# EAGLE library part SD_MMC (library CameraTags)
Sparkfun SD MMC Breakout Module SDIO https://www.sparkfun.com/products/12941
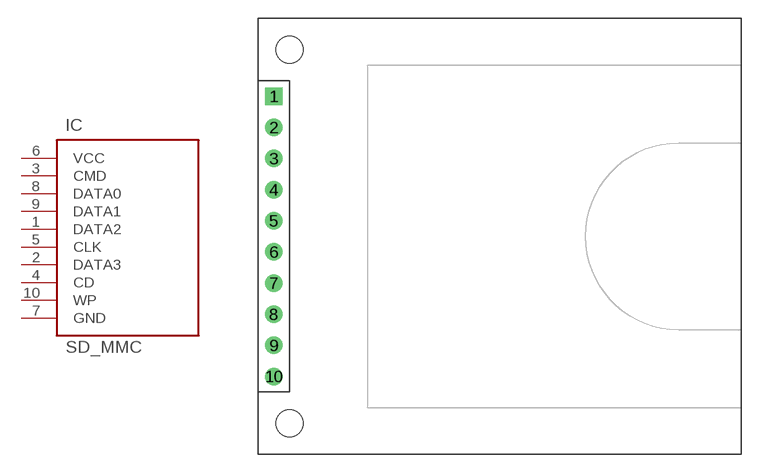
[diagram p16: symbol with the pads of SD_MMC; footprint SD_MMC]

Designator prefix IC

## SD_MMC  [SD_MMC]
1  DATA2
2  DATA3
3  CMD
4  CD
5  CLK
6  VCC
7  GND
8  DATA0
9  DATA1
10  WP

## Footprint SD_MMC (pad centres in mm)
Sparkfun SD / MMC Breakout Module https://www.sparkfun.com/products/12941
drill 0.8 pad 1.422 square: 1 -17.78,11.43
drill 0.8 pad 1.422: 2 -17.78,8.89; 3 -17.78,6.35; 4 -17.78,3.81; 5 -17.78,1.27; 6 -17.78,-1.27; 7 -17.78,-3.81; 8 -17.78,-6.35; 9 -17.78,-8.89; 10 -17.78,-11.43
hole 2.2 at -16.51,15.24
hole 2.2 at -16.51,-15.24